# Altium schematic symbol library PIN LIPO.SchLib: 1 symbol
Pins are listed as number, name and electrical type; pins without a type are passive.

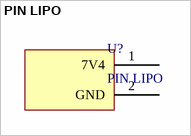
[diagram p0: symbol PIN LIPO]

## PIN LIPO
designator U?
pins: 1 7V4, 2 GND